# EAGLE library part FT601Q-B-T (library My_Library_RADAR)
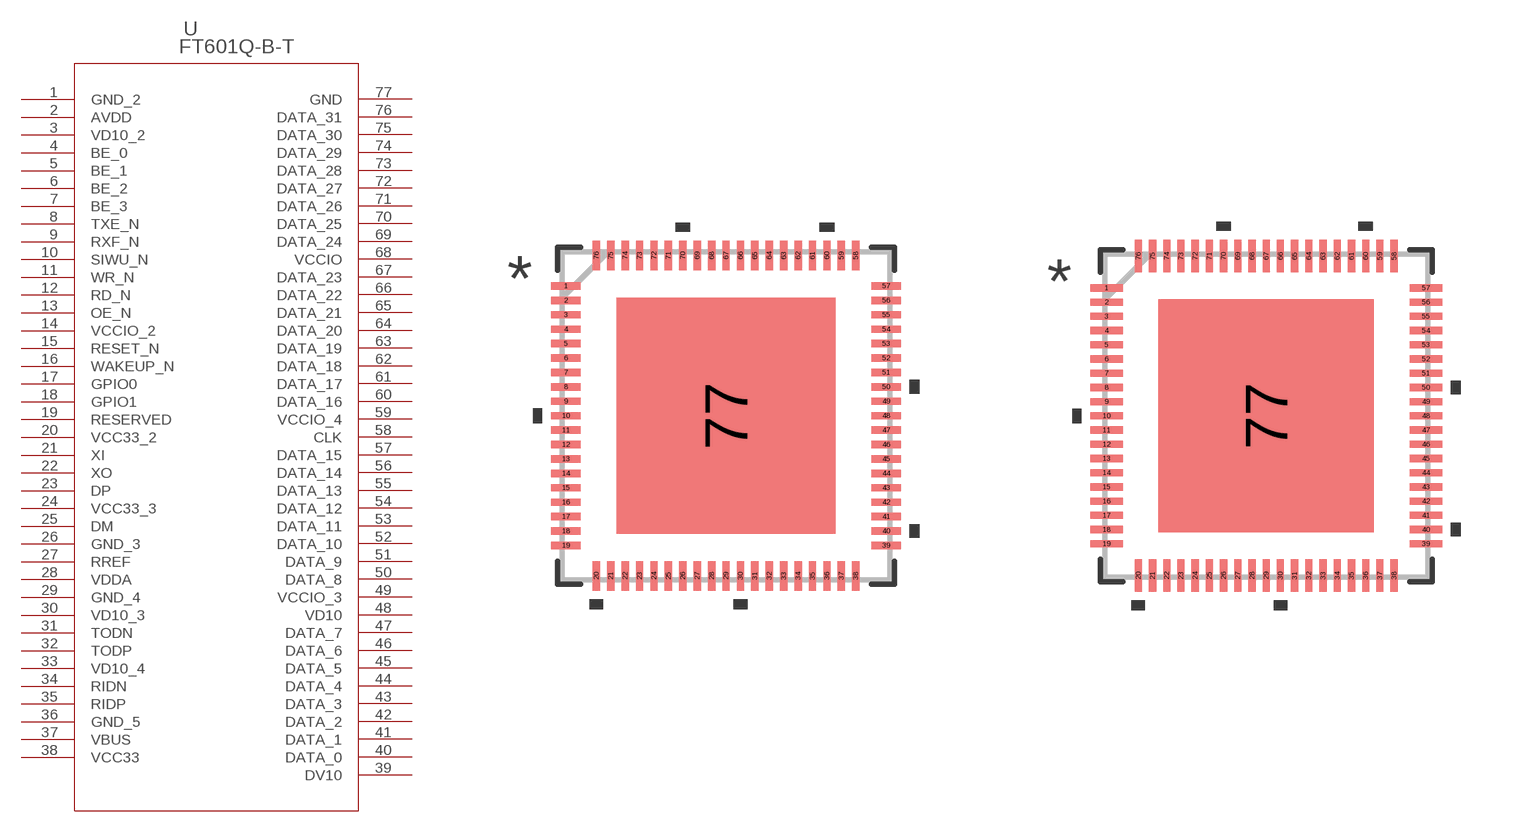
[diagram p28: symbol with the pads of QFN76_FTD; footprints QFN76_FTD, QFN76_FTD-M]

Designator prefix U

## FT601Q-B-T (COPYRIGHT: Copyright (C) 2026 Ultra Librarian. All rights reserved.; MANUFACTURER_NAME: FTDI, Future Technology Devices International Ltd; MANUFACTURER_PART_NUMBER: FT601Q-B-T)  [QFN76_FTD]
1  GND_2  pas
2  AVDD  pwr
3  VD10_2
4  BE_0
5  BE_1
6  BE_2
7  BE_3
8  TXE_N  out
9  RXF_N  out
10  SIWU_N  in
11  WR_N  in
12  RD_N  in
13  OE_N  in
14  VCCIO_2  pwr
15  RESET_N  in
16  WAKEUP_N
17  GPIO0
18  GPIO1
19  RESERVED  pas
20  VCC33_2  pwr
21  XI  in
22  XO  out
23  DP
24  VCC33_3  pwr
25  DM
26  GND_3  pas
27  RREF  in
28  VDDA  pwr
29  GND_4  pas
30  VD10_3
31  TODN  out
32  TODP  out
33  VD10_4
34  RIDN  in
35  RIDP  in
36  GND_5  pas
37  VBUS  pwr
38  VCC33  pwr
39  DV10  out
40  DATA_0
41  DATA_1
42  DATA_2
43  DATA_3
44  DATA_4
45  DATA_5
46  DATA_6
47  DATA_7
48  VD10
49  VCCIO_3  pwr
50  DATA_8
51  DATA_9
52  DATA_10
53  DATA_11
54  DATA_12
55  DATA_13
56  DATA_14
57  DATA_15
58  CLK  out
59  VCCIO_4  pwr
60  DATA_16
61  DATA_17
62  DATA_18
63  DATA_19
64  DATA_20
65  DATA_21
66  DATA_22
67  DATA_23
68  VCCIO  pwr
69  DATA_24
70  DATA_25
71  DATA_26
72  DATA_27
73  DATA_28
74  DATA_29
75  DATA_30
76  DATA_31
77  GND  pas

## FT601Q-B-TQFN76_FTD-M (COPYRIGHT: Copyright (C) 2026 Ultra Librarian. All rights reserved.; MANUFACTURER_NAME: FTDI, Future Technology Devices International Ltd; MANUFACTURER_PART_NUMBER: FT601Q-B-T)  [QFN76_FTD-M]
Pads as for QFN76_FTD

## FT601Q-B-TQFN76_FTD-L (COPYRIGHT: Copyright (C) 2026 Ultra Librarian. All rights reserved.; MANUFACTURER_NAME: FTDI, Future Technology Devices International Ltd; MANUFACTURER_PART_NUMBER: FT601Q-B-T)  [QFN76_FTD-L]
Pads as for QFN76_FTD

## Footprint QFN76_FTD (pad centres in mm)
smd 0.813 x 0.203: 1 -4.445,3.6; 2 -4.445,3.2; 3 -4.445,2.8; 4 -4.445,2.4; 5 -4.445,2; 6 -4.445,1.6; 7 -4.445,1.2; 8 -4.445,0.8; 9 -4.445,0.4; 10 -4.445,0; 11 -4.445,-0.4; 12 -4.445,-0.8; 13 -4.445,-1.2; 14 -4.445,-1.6; 15 -4.445,-2; 16 -4.445,-2.4; 17 -4.445,-2.8; 18 -4.445,-3.2; 19 -4.445,-3.6; 39 4.445,-3.6; 40 4.445,-3.2; 41 4.445,-2.8; 42 4.445,-2.4; 43 4.445,-2; 44 4.445,-1.6; 45 4.445,-1.2; 46 4.445,-0.8; 47 4.445,-0.4; 48 4.445,0; 49 4.445,0.4; 50 4.445,0.8; 51 4.445,1.2; 52 4.445,1.6; 53 4.445,2; 54 4.445,2.4; 55 4.445,2.8; 56 4.445,3.2; 57 4.445,3.6
smd 0.203 x 0.813: 20 -3.6,-4.445; 21 -3.2,-4.445; 22 -2.8,-4.445; 23 -2.4,-4.445; 24 -2,-4.445; 25 -1.6,-4.445; 26 -1.2,-4.445; 27 -0.8,-4.445; 28 -0.4,-4.445; 29 0,-4.445; 30 0.4,-4.445; 31 0.8,-4.445; 32 1.2,-4.445; 33 1.6,-4.445; 34 2,-4.445; 35 2.4,-4.445; 36 2.8,-4.445; 37 3.2,-4.445; 38 3.6,-4.445; 58 3.6,4.445; 59 3.2,4.445; 60 2.8,4.445; 61 2.4,4.445; 62 2,4.445; 63 1.6,4.445; 64 1.2,4.445; 65 0.8,4.445; 66 0.4,4.445; 67 0,4.445; 68 -0.4,4.445; 69 -0.8,4.445; 70 -1.2,4.445; 71 -1.6,4.445; 72 -2,4.445; 73 -2.4,4.445; 74 -2.8,4.445; 75 -3.2,4.445; 76 -3.6,4.445
smd 6.071 x 6.553: 77 0,0

## Footprint QFN76_FTD-M (pad centres in mm)
smd 0.914 x 0.203: 1 -4.496,3.6; 2 -4.496,3.2; 3 -4.496,2.8; 4 -4.496,2.4; 5 -4.496,2; 6 -4.496,1.6; 7 -4.496,1.2; 8 -4.496,0.8; 9 -4.496,0.4; 10 -4.496,0; 11 -4.496,-0.4; 12 -4.496,-0.8; 13 -4.496,-1.2; 14 -4.496,-1.6; 15 -4.496,-2; 16 -4.496,-2.4; 17 -4.496,-2.8; 18 -4.496,-3.2; 19 -4.496,-3.6; 39 4.496,-3.6; 40 4.496,-3.2; 41 4.496,-2.8; 42 4.496,-2.4; 43 4.496,-2; 44 4.496,-1.6; 45 4.496,-1.2; 46 4.496,-0.8; 47 4.496,-0.4; 48 4.496,0; 49 4.496,0.4; 50 4.496,0.8; 51 4.496,1.2; 52 4.496,1.6; 53 4.496,2; 54 4.496,2.4; 55 4.496,2.8; 56 4.496,3.2; 57 4.496,3.6
smd 0.203 x 0.914: 20 -3.6,-4.496; 21 -3.2,-4.496; 22 -2.8,-4.496; 23 -2.4,-4.496; 24 -2,-4.496; 25 -1.6,-4.496; 26 -1.2,-4.496; 27 -0.8,-4.496; 28 -0.4,-4.496; 29 0,-4.496; 30 0.4,-4.496; 31 0.8,-4.496; 32 1.2,-4.496; 33 1.6,-4.496; 34 2,-4.496; 35 2.4,-4.496; 36 2.8,-4.496; 37 3.2,-4.496; 38 3.6,-4.496; 58 3.6,4.496; 59 3.2,4.496; 60 2.8,4.496; 61 2.4,4.496; 62 2,4.496; 63 1.6,4.496; 64 1.2,4.496; 65 0.8,4.496; 66 0.4,4.496; 67 0,4.496; 68 -0.4,4.496; 69 -0.8,4.496; 70 -1.2,4.496; 71 -1.6,4.496; 72 -2,4.496; 73 -2.4,4.496; 74 -2.8,4.496; 75 -3.2,4.496; 76 -3.6,4.496
smd 6.071 x 6.553: 77 0,0

## Footprint QFN76_FTD-L (pad centres in mm)
smd 0.711 x 0.203: 1 -4.394,3.6; 2 -4.394,3.2; 3 -4.394,2.8; 4 -4.394,2.4; 5 -4.394,2; 6 -4.394,1.6; 7 -4.394,1.2; 8 -4.394,0.8; 9 -4.394,0.4; 10 -4.394,0; 11 -4.394,-0.4; 12 -4.394,-0.8; 13 -4.394,-1.2; 14 -4.394,-1.6; 15 -4.394,-2; 16 -4.394,-2.4; 17 -4.394,-2.8; 18 -4.394,-3.2; 19 -4.394,-3.6; 39 4.394,-3.6; 40 4.394,-3.2; 41 4.394,-2.8; 42 4.394,-2.4; 43 4.394,-2; 44 4.394,-1.6; 45 4.394,-1.2; 46 4.394,-0.8; 47 4.394,-0.4; 48 4.394,0; 49 4.394,0.4; 50 4.394,0.8; 51 4.394,1.2; 52 4.394,1.6; 53 4.394,2; 54 4.394,2.4; 55 4.394,2.8; 56 4.394,3.2; 57 4.394,3.6
smd 0.203 x 0.711: 20 -3.6,-4.394; 21 -3.2,-4.394; 22 -2.8,-4.394; 23 -2.4,-4.394; 24 -2,-4.394; 25 -1.6,-4.394; 26 -1.2,-4.394; 27 -0.8,-4.394; 28 -0.4,-4.394; 29 0,-4.394; 30 0.4,-4.394; 31 0.8,-4.394; 32 1.2,-4.394; 33 1.6,-4.394; 34 2,-4.394; 35 2.4,-4.394; 36 2.8,-4.394; 37 3.2,-4.394; 38 3.6,-4.394; 58 3.6,4.394; 59 3.2,4.394; 60 2.8,4.394; 61 2.4,4.394; 62 2,4.394; 63 1.6,4.394; 64 1.2,4.394; 65 0.8,4.394; 66 0.4,4.394; 67 0,4.394; 68 -0.4,4.394; 69 -0.8,4.394; 70 -1.2,4.394; 71 -1.6,4.394; 72 -2,4.394; 73 -2.4,4.394; 74 -2.8,4.394; 75 -3.2,4.394; 76 -3.6,4.394
smd 6.071 x 6.553: 77 0,0